# Altium footprint library UMHVP.PcbLib: 1 footprints
Each footprint in its own frame and in the unit in brackets; x right, y up, seen from the top. Pads: shape width x height; smd on the part's side, far side on the other; paste and mask are expansions set on the pad; w line width, h text height; cw(c..) or ccw(c..) is an arc to the next point about the centre after c.
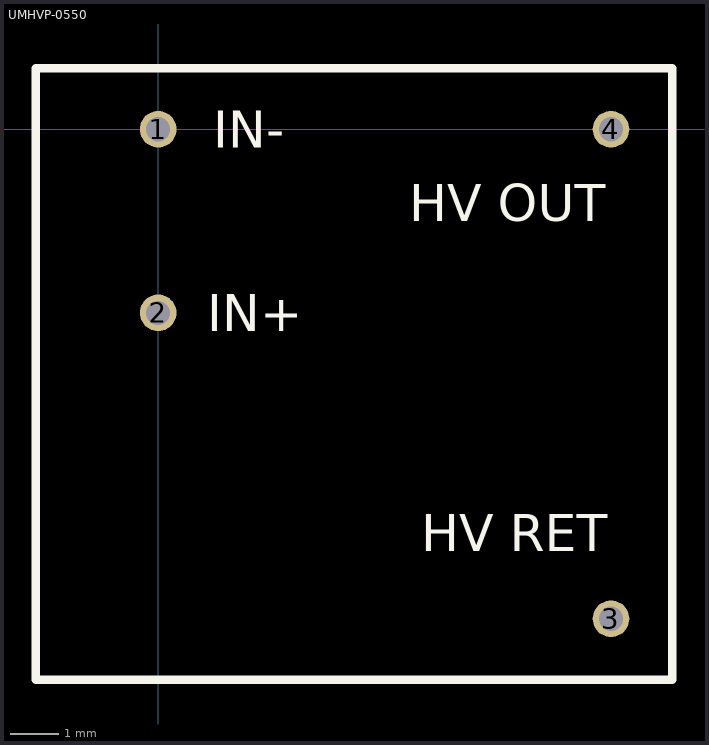
[diagram p0: the footprint, top view; thin cyan lines are the x and y axes]

## UMHVP-0550 [mil]
pads (4):
  round 30 hole 19.68: 1(0,0) 2(0,-150) 3(370,-400) 4(370,0)
Top Overlay:
  lines w7: -100,-450 420,-450 420,50 -100,50 -100,-450
  text "HV RET" at 215,-345 h30
  text "HV OUT" at 205,-75 h30
  text "IN+" at 40,-165 h30
  text "IN-" at 45,-15 h30